# EAGLE library part 7SEG-3 (library MyLibrary)
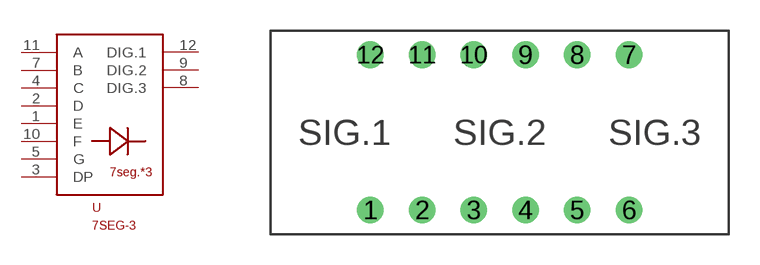
[diagram p3: symbol with the pads of 2831BS; footprint 2831BS]

Designator prefix -

## 7SEG-3  [2831BS]
1  E
2  D
3  DP
4  C
5  G
7  B
8  DIG.3
9  DIG.2
10  F
11  A
12  DIG.1

## Footprint 2831BS (pad centres in mm)
drill 0.8: 1 -6.35,-3.81; 2 -3.81,-3.81; 3 -1.27,-3.81; 4 1.27,-3.81; 5 3.81,-3.81; 6 6.35,-3.81; 7 6.35,3.81; 8 3.81,3.81; 9 1.27,3.81; 10 -1.27,3.81; 11 -3.81,3.81; 12 -6.35,3.81